# Altium footprint library power.PcbLib: 38 footprints (part 2 of 3)
Each footprint in its own frame and in the unit in brackets; x right, y up, seen from the top. Pads: shape width x height; smd on the part's side, far side on the other; paste and mask are expansions set on the pad; w line width, h text height; cw(c..) or ccw(c..) is an arc to the next point about the centre after c.
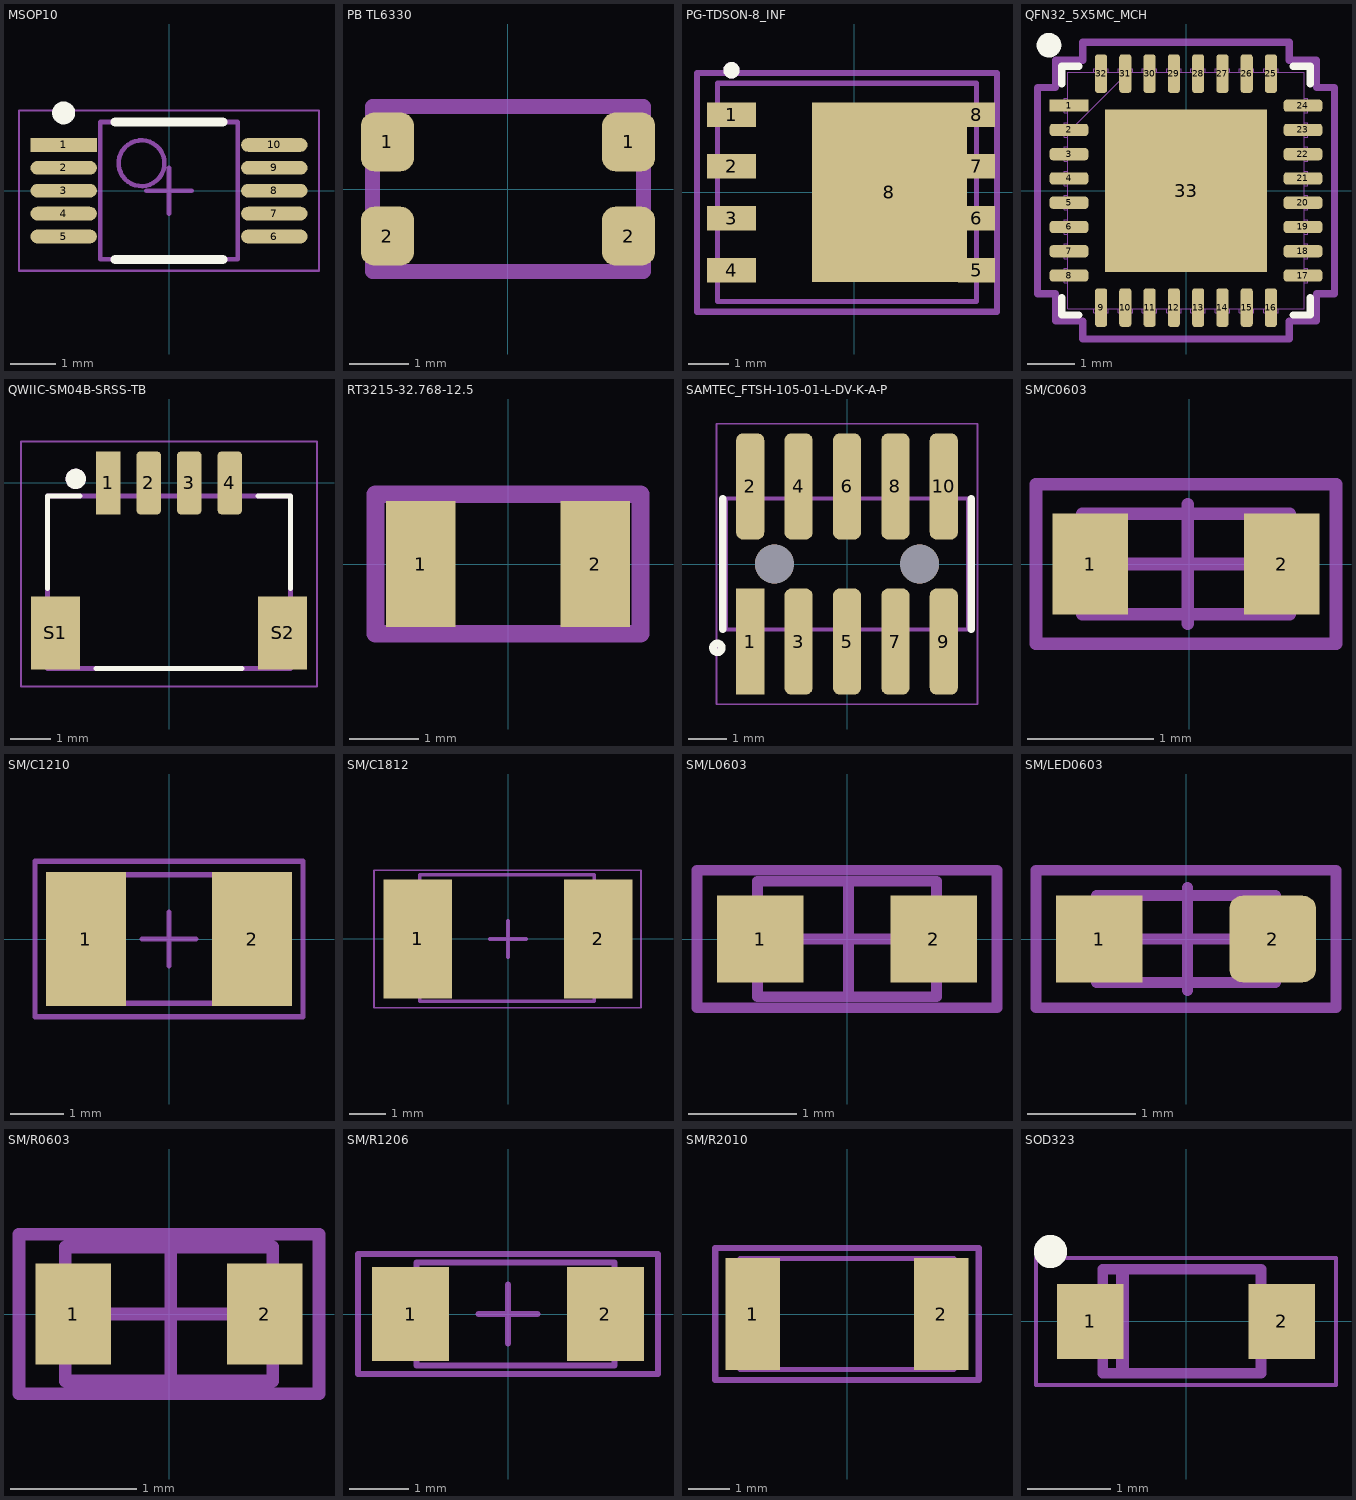
[diagram p1: the footprints below, top view; thin cyan lines are the x and y axes]

## MSOP10 [mm] "TSSOP, 10-Leads, Body 3.00x3.00mm, Pitch 0.50mm, Thermal Pad 1.68.2x1.68.2mm, IPC Medium Density"
height 1.1
pads (10):
  rect 1.45x0.3 smd: 1(-2.3,1)
  oval 1.45x0.3 smd: 2(-2.3,0.5) 3(-2.3,0) 4(-2.3,-0.5) 5(-2.3,-1) 6(2.3,-1) 7(2.3,-0.5) 8(2.3,0) 9(2.3,0.5) 10(2.3,1)
Top Overlay:
  circle w0.25: c-2.3,1.7 r0.125
  lines w0.2: -1.175,-1.5 1.175,-1.5 ; -1.175,1.5 1.175,1.5
Top 3D Body:
  circle w0.1: c-0.6,0.6 r0.5
  lines w0.1: -1.5,-1.5 1.5,-1.5 1.5,1.5 -1.5,1.5 -1.5,-1.5
Top Courtyard:
  lines w0.05: -3.275,-1.75 3.275,-1.75 3.275,1.75 -3.275,1.75 -3.275,-1.75
  lines w0.1: -0.5,0 0.5,0 ; 0,-0.5 0,0.5
Top Designator:
  text ".Designator" at -7.618,-0.42 h1.52
3D body "MSOP10.STEP": height 1.15, standoff 0, extent -2.45,-1.5 2.45,1.5

## PB TL6330 [mm]
pads (4):
  rrect50% 0.9x1 smd: 1(-2.05,0.8) 1(2.05,0.8) 2(-2.05,-0.8) 2(2.05,-0.8)
Top Courtyard:
  lines w0.254: -2.3,-1.4 -2.3,1.4 2.3,1.4 2.3,-1.4 -2.3,-1.4
Top Designator:
  text ".Designator" at -3.999,1.667 h0.7
3D body "TL6330AF200Q--3DModel-STEP-520916.STEP": height 1.89, standoff -0.01, extent -2.3,-1.4 2.3,1.4

## PG-TDSON-8_INF [mm]
pads (9):
  rect 1.2x0.6 smd: 1(-3,1.905) 2(-3,0.635) 3(-3,-0.635) 4(-3,-1.905)
  rect 0.9x0.6 smd: 5(3,-1.905) 6(3,-0.635) 7(3,0.635) 8(3,1.905)
  rect 3.8x4.4 smd paste-3: 8(0.864,0)
Top Overlay:
  circle w0.2: c-3.005,2.992 r0.1
Top Paste:
  region: 0.6,-1.8 -0.582,-1.8 -0.582,-0.605 0.6,-0.605
  region: 0.6,0.6 -0.582,0.6 -0.582,1.795 0.6,1.795
  region: 2.2,0.6 1.018,0.6 1.018,1.795 2.2,1.795
  region: 2.2,-1.8 1.018,-1.8 1.018,-0.605 2.2,-0.605
Top 3D Body:
  circle w0.2: c-3.005,2.992 r0.1
  lines w0.127: -3.35,-2.675 3,-2.675 3,2.675 -3.35,2.675 -3.35,-2.675
Top Courtyard:
  lines w0.15: -3.85,-2.925 3.5,-2.925 3.5,2.925 -3.85,2.925 -3.85,-2.925
3D body "User Library-son_1p27-6x5x1p10-5_8n.STEP": height 1.1, standoff 0, extent -3.124,-2.575 3.026,2.575

## QFN32_5X5MC_MCH [mil]
pads (33):
  rect 31.81x10.03 smd paste+0 mask+0: 1(-96.41,70)
  rrect50% 31.81x10.03 smd paste+0 mask+0: 2(-96.41,50) 3(-96.41,30) 4(-96.41,10) 5(-96.41,-10) 6(-96.41,-30) 7(-96.41,-50) 8(-96.41,-70) 17(96.41,-70) 18(96.41,-50) 19(96.41,-30) 20(96.41,-10) 21(96.41,10) 22(96.41,30) 23(96.41,50) 24(96.41,70)
  rrect50% 10.03x31.81 smd paste+0 mask+0: 9(-70,-96.41) 10(-50,-96.41) 11(-30,-96.41) 12(-10,-96.41) 13(10,-96.41) 14(30,-96.41) 15(50,-96.41) 16(70,-96.41) 25(70,96.41) 26(50,96.41) 27(30,96.41) 28(10,96.41) 29(-10,96.41) 30(-30,96.41) 31(-50,96.41) 32(-70,96.41)
  rect 133.86x133.86 smd paste-66.5 mask+0: 33(0,0)
Top Overlay:
  circle w10: c-112.91,119.8 r5.12
  lines w6: -102.5,-88.12 -102.5,-102.5 -88.12,-102.5 ; -102.5,88.12 -102.5,102.5 -88.12,102.5 ; 88.12,-102.5 102.5,-102.5 102.5,-88.12 ; 88.12,102.5 102.5,102.5 102.5,88.12
Top Paste:
  region: -3.94,63.06 -63.06,63.06 -63.06,3.94 -3.94,3.94
  region: -3.94,-3.94 -63.06,-3.94 -63.06,-63.06 -3.94,-63.06
  region: 63.06,63.06 3.94,63.06 3.94,3.94 63.06,3.94
  region: 63.06,-3.94 3.94,-3.94 3.94,-63.06 63.06,-63.06
Top 3D Body:
  lines w1: -97.5,47.5 -47.5,97.5 ; -100.5,-76 -97.5,-76 -97.5,-64 -100.5,-64 -100.5,-76 ; -100.5,-56 -97.5,-56 -97.5,-44 -100.5,-44 -100.5,-56 ; -100.5,-36 -97.5,-36 -97.5,-24 -100.5,-24 -100.5,-36 ; -100.5,-16 -97.5,-16 -97.5,-4 -100.5,-4 -100.5,-16 ; -100.5,4 -97.5,4 -97.5,16 -100.5,16 -100.5,4 ; -100.5,24 -97.5,24 -97.5,36 -100.5,36 -100.5,24 ; -100.5,44 -97.5,44 -97.5,56 -100.5,56 -100.5,44 ; -100.5,64 -97.5,64 -97.5,76 -100.5,76 -100.5,64 ; -97.5,-97.5 -97.5,97.5 97.5,97.5 97.5,-97.5 -97.5,-97.5 ; -76,-100.5 -64,-100.5 -64,-97.5 -76,-97.5 -76,-100.5 ; -76,97.5 -76,100.5 -64,100.5 -64,97.5 -76,97.5 ; -56,-100.5 -44,-100.5 -44,-97.5 -56,-97.5 -56,-100.5 ; -56,97.5 -56,100.5 -44,100.5 -44,97.5 -56,97.5 ; -36,-100.5 -24,-100.5 -24,-97.5 -36,-97.5 -36,-100.5 ; -36,97.5 -36,100.5 -24,100.5 -24,97.5 -36,97.5 ; -16,-100.5 -4,-100.5 -4,-97.5 -16,-97.5 -16,-100.5 ; -16,97.5 -16,100.5 -4,100.5 -4,97.5 -16,97.5 ; 4,-100.5 16,-100.5 16,-97.5 4,-97.5 4,-100.5 ; 4,97.5 4,100.5 16,100.5 16,97.5 4,97.5 ; 24,-100.5 36,-100.5 36,-97.5 24,-97.5 24,-100.5 ; 24,97.5 24,100.5 36,100.5 36,97.5 24,97.5 ; 44,-100.5 56,-100.5 56,-97.5 44,-97.5 44,-100.5 ; 44,97.5 44,100.5 56,100.5 56,97.5 44,97.5 ; 64,-100.5 76,-100.5 76,-97.5 64,-97.5 64,-100.5 ; 64,97.5 64,100.5 76,100.5 76,97.5 64,97.5 ; 97.5,-76 100.5,-76 100.5,-64 97.5,-64 97.5,-76 ; 97.5,-56 100.5,-56 100.5,-44 97.5,-44 97.5,-56 ; 97.5,-36 100.5,-36 100.5,-24 97.5,-24 97.5,-36 ; 97.5,-16 100.5,-16 100.5,-4 97.5,-4 97.5,-16 ; 97.5,4 100.5,4 100.5,16 97.5,16 97.5,4 ; 97.5,24 100.5,24 100.5,36 97.5,36 97.5,24 ; 97.5,44 100.5,44 100.5,56 97.5,56 97.5,44 ; 97.5,64 100.5,64 100.5,76 97.5,76 97.5,64
  text "*" at -93,55 h50
Top Courtyard:
  lines w6: -122.31,-85.02 -122.31,85.02 -107.5,85.02 -107.5,107.5 -85.02,107.5 -85.02,122.31 85.02,122.31 85.02,107.5 107.5,107.5 107.5,85.02 122.31,85.02 122.31,-85.02 107.5,-85.02 107.5,-107.5 85.02,-107.5 85.02,-122.31 -85.02,-122.31 -85.02,-107.5 -107.5,-107.5 -107.5,-85.02 -122.31,-85.02
Top Designator:
  text ".Designator" at -114.57,-7.87 h23.62
3D body "QFN32_5X5MC_MCH.step": height 65.12, standoff 0, extent -100.51,-100.51 100.51,100.52
3D body: height 10, standoff 0, extent 0,0 10,10

## QWIIC-SM04B-SRSS-TB [mm]
pads (6):
  rect 0.6x1.55 smd: 1(-1.5,0)
  rrect30% 0.6x1.55 smd: 2(-0.5,0) 3(0.5,0) 4(1.5,0)
  rect 1.2x1.8 smd: S1(-2.8,-3.7) S2(2.8,-3.7)
Top Overlay:
  circle w0.3: c-2.3,0.1 r0.1
  lines w0.127: -3,-2.6 -3,-0.325 -2.2,-0.325 ; -1.8,-4.575 1.8,-4.575 ; 2.2,-0.325 3,-0.325 3,-2.6
Top 3D Body:
  circle w0.3: c-2.3,0.1 r0.1
  lines w0.127: -3,-4.575 3,-4.575 3,-0.325 -3,-0.325 -3,-4.575
Top Courtyard:
  lines w0.05: -3.65,-5.025 3.65,-5.025 3.65,1.025 -3.65,1.025 -3.65,-5.025
Top Designator:
  text ".Designator" at -3.899,1.267 h0.7
3D body "QWIIC-SM04B-SRSS-TB.STEP": height 2.94, standoff -0.02, extent -3,-4.597 3,0.353

## RT3215-32.768-12.5 [mm]
pads (2):
  rect 1x1.8 smd: 1(-1.25,0) 2(1.25,0)
Top Courtyard:
  lines w0.254: -1.9,-1 1.9,-1 1.9,1 -1.9,1 -1.9,-1
Top Designator:
  text ".Designator" at -3.499,-0.233 h0.7
3D body "RT3215-32.768-12.5-TR.STEP": height 0.9, standoff 0, extent -1.61,-0.76 1.61,0.76

## SAMTEC_FTSH-105-01-L-DV-K-A-P [mm]
pads (12):
  rect 0.74x2.79 smd: 1(-2.54,-2.035)
  rrect50% 0.74x2.79 smd: 2(-2.54,2.035) 3(-1.27,-2.035) 4(-1.27,2.035) 5(0,-2.035) 6(0,2.035) 7(1.27,-2.035) 8(1.27,2.035) 9(2.54,-2.035) 10(2.54,2.035)
  round 1.02 hole 1.02 unplated mask+0.102: ""(-1.905,0) ""(1.905,0)
Top Overlay:
  circle w0.2: c-3.4,-2.2 r0.115
  lines w0.2: -3.26,-1.715 -3.26,1.715 ; 3.26,-1.715 3.26,1.715
Top 3D Body:
  circle w0.2: c-3.4,-2.2 r0.1
  lines w0.1: -3.175,-1.715 -3.175,1.715 3.175,1.715 3.175,-1.715 -3.175,-1.715
Top Courtyard:
  lines w0.05: -3.425,-3.68 -3.425,3.68 3.425,3.68 3.425,-3.68 -3.425,-3.68
Top Designator:
  text ".Designator" at -3.769,-0.233 h0.7
3D body "FTSH-105-01-L-DV-K-A-P-TR.STEP": height 6.15, standoff -0.83, extent -3.175,-2.921 3.175,2.921

## SM/C0603 [mm] "Chip Capacitor, Body 1.6x0.8mm, IPC Low Density"
height 0.6
pads (2):
  rect 0.6x0.8 smd: 1(-0.787,0) 2(0.737,0)
Top 3D Body:
  lines w0.1: -0.851,-0.4 0.8,-0.4 0.8,0.4 -0.851,0.4 -0.851,-0.4
Top Courtyard:
  lines w0.1: -0.488,0 0.462,0 ; -0.013,-0.475 -0.013,0.475 ; -1.219,-0.635 -1.219,0.635 1.168,0.635 1.168,-0.635 -1.219,-0.635
Top Designator:
  text ".Designator" at -2.525,-0.167 h0.5
3D body "SM-C603.STEP": height 0.6, standoff 0, extent -0.825,-0.4 0.775,0.4

## SM/C1210 [mm] "Chip Resistor, Body 3.2x1.6mm, IPC Low Density"
height 0.71
pads (2):
  rect 1.5x2.5 smd: 1(-1.55,0) 2(1.55,0)
Top 3D Body:
  lines w0.1: -1.675,-1.2 -1.675,1.2 1.675,1.2 1.675,-1.2 -1.675,-1.2
Top Courtyard:
  lines w0.1: -0.5,0 0.5,0 ; 0,-0.5 0,0.5 ; -2.5,-1.45 -2.5,1.45 2.5,1.45 2.5,-1.45 -2.5,-1.45
Top Designator:
  text ".Designator" at -2.999,-0.2 h0.6
3D body "1210.STEP": height 2.5, standoff 0, extent -1.651,-1.245 1.549,1.255

## SM/C1812 [mm] "Chip Capacitor, 2-Leads, Body 7.00x3.15mm, IPC Medium Density"
height 0.6
pads (2):
  rect 1.9x3.3 smd: 1(-2.5,0) 2(2.5,0)
Top 3D Body:
  lines w0.1: -2.438,-1.727 -2.438,1.778 2.388,1.778 2.388,-1.727 -2.438,-1.727
Top Courtyard:
  lines w0.05: -3.708,-1.9 -3.708,1.9 3.683,1.9 3.683,-1.9 -3.708,-1.9
  lines w0.1: -0.5,0 0.5,0 ; 0,-0.5 0,0.5
3D body "c1812c102kgractu.stp": height 1.54, standoff -0.01, extent -2.425,-1.727 2.375,1.773

## SM/L0603 [mm] "Chip Capacitor, Body 1.6x0.8mm, IPC Low Density"
height 0.6
pads (2):
  rect 0.8x0.8 smd: 1(-0.8,0) 2(0.8,0)
Top 3D Body:
  lines w0.1: -0.826,-0.533 0.826,-0.533 0.826,0.533 -0.826,0.533 -0.826,-0.533
Top Courtyard:
  lines w0.1: -0.462,0 0.488,0 ; 0.013,-0.475 0.013,0.475 ; -1.384,-0.635 -1.384,0.635 1.384,0.635 1.384,-0.635 -1.384,-0.635
Top Designator:
  text ".Designator" at -7.618,-0.508 h1.52
3D body "SM-L0603.STEP": height 0.45, standoff 0, extent -0.774,-0.393 0.826,0.407

## SM/LED0603 [mm] "Chip Capacitor, Body 1.6x0.8mm, IPC Low Density"
height 0.6
pads (2):
  rect 0.8x0.8 smd: 1(-0.8,0)
  rrect30% 0.8x0.8 smd: 2(0.8,0)
Top 3D Body:
  lines w0.1: -0.826,-0.4 0.826,-0.4 0.826,0.4 -0.826,0.4 -0.826,-0.4
Top Courtyard:
  lines w0.1: -0.462,0 0.488,0 ; 0.013,-0.475 0.013,0.475 ; -1.384,-0.635 -1.384,0.635 1.384,0.635 1.384,-0.635 -1.384,-0.635
Top Designator:
  text ".Designator" at -3.199,1.167 h0.7
3D body "XZxx53-1.STEP": height 0.73, standoff -0.02, extent -0.776,-0.401 0.835,0.401

## SM/R0603 [mm] "Chip Resistor, Body 1.6x0.8mm, IPC Low Density"
height 0.6
pads (2):
  rect 0.6x0.8 smd: 1(-0.762,0) 2(0.762,0)
Top 3D Body:
  lines w0.1: -0.826,-0.533 0.826,-0.533 0.826,0.533 -0.826,0.533 -0.826,-0.533
Top Courtyard:
  lines w0.1: -0.462,0 0.488,0 ; 0.013,-0.475 0.013,0.475 ; -1.194,-0.635 -1.194,0.635 1.194,0.635 1.194,-0.635 -1.194,-0.635
Top Designator:
  text ".Designator" at -2.499,-0.167 h0.5
3D body "RES0603-1.STEP": height 0.4, standoff 0, extent -0.8,-0.4 0.8,0.4

## SM/R1206 [mm] "Chip Resistor, Body 3.2x1.6mm, IPC Low Density"
height 0.71
pads (2):
  rect 1.3x1.6 smd: 1(-1.651,0) 2(1.651,0)
Top 3D Body:
  lines w0.1: -1.548,-0.875 -1.548,0.875 1.802,0.875 1.802,-0.875 -1.548,-0.875
Top Courtyard:
  lines w0.1: -0.5,0 0.5,0 ; 0,-0.5 0,0.5 ; -2.54,-1.016 -2.54,1.016 2.54,1.016 2.54,-1.016 -2.54,-1.016
Top Designator:
  text ".Designator" at -2.999,-0.2 h0.6
3D body "R1206.STEP": height 0.55, standoff 0, extent -1.6,-0.8 1.6,0.8

## SM/R2010 [mm]
pads (2):
  rect 1.33x2.72 smd: 1(-2.294,0) 2(2.294,0)
Top 3D Body:
  lines w0.127: -2.6,-1.35 2.6,-1.35 2.6,1.35 -2.6,1.35 -2.6,-1.35
Top Courtyard:
  lines w0.15: -3.208,-1.608 3.208,-1.608 3.208,1.608 -3.208,1.608 -3.208,-1.608
Top Designator:
  text ".Designator" at -2.999,-0.2 h0.6
3D body "RMCF2010.stp": height 0.54, standoff -0.01, extent -2.5,-1.27 2.5,1.23

## SOD323 [mm]
pads (2):
  rect 0.8x0.9 smd: 1(-1.15,0) 2(1.15,0)
Top Overlay:
  circle w0.2: c-1.626,0.838 r0.1
Top 3D Body:
  lines w0.127: -1,-0.625 -1,0.625 0.9,0.625 0.9,-0.625 -1,-0.625
  lines w0.152: -0.762,-0.61 -0.762,0.584
Top Courtyard:
  lines w0.05: -1.8,-0.762 1.8,-0.762 1.8,0.762 -1.8,0.762 -1.8,-0.762
Top Designator:
  text ".Designator" at -2.737,-0.167 h0.5
3D body "User Library-SOD323F-1.step": height 1, standoff 0, extent -1.25,-0.675 1.25,0.675